# EAGLE library part 50238-034 (library con-aces-50238-series)
ACES CONNECTORS 50238 SERIES ACES Connecors 50238 <https://www.acesconn.com/tw/series/50238-xxxxx-xxx/1290>
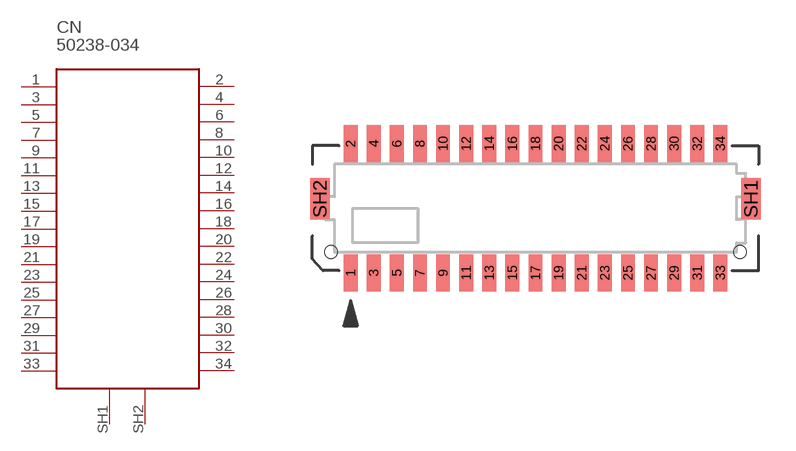
[diagram p10: symbol with the pads of 50238-034; footprint 50238-034]

Designator prefix CN

## 50238-034  [50238-034]
1  1
2  2
3  3
4  4
5  5
6  6
7  7
8  8
9  9
10  10
11  11
12  12
13  13
14  14
15  15
16  16
17  17
18  18
19  19
20  20
21  21
22  22
23  23
24  24
25  25
26  26
27  27
28  28
29  29
30  30
31  31
32  32
33  33
34  34
SH1  SH1
SH2  SH2

## Footprint 50238-034 (pad centres in mm)
smd 0.6 x 1.6: 1 -8,-2.8; 2 -8,2.8; 3 -7,-2.8; 4 -7,2.8; 5 -6,-2.8; 6 -6,2.8; 7 -5,-2.8; 8 -5,2.8; 9 -4,-2.8; 10 -4,2.8; 11 -3,-2.8; 12 -3,2.8; 13 -2,-2.8; 14 -2,2.8; 15 -1,-2.8; 16 -1,2.8; 17 0,-2.8; 18 0,2.8; 19 1,-2.8; 20 1,2.8; 21 2,-2.8; 22 2,2.8; 23 3,-2.8; 24 3,2.8; 25 4,-2.8; 26 4,2.8; 27 5,-2.8; 28 5,2.8; 29 6,-2.8; 30 6,2.8; 31 7,-2.8; 32 7,2.8; 33 8,-2.8; 34 8,2.8
smd 0.85 x 1.8: SH1 9.325,0.4; SH2 -9.325,0.4
hole 0.55 at -8.85,-1.9
hole 0.55 at 8.85,-1.9